# EAGLE library part TPS56528 (library PowerMgmt_TI)
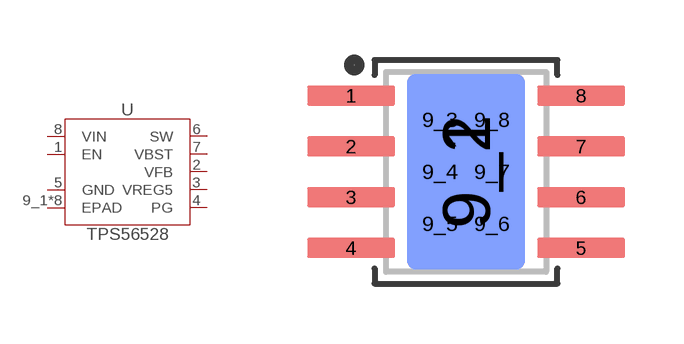
[diagram p0: symbol with the pads of SOIC-08_EPAD; footprint SOIC-08_EPAD]

Designator prefix U

## TPS56528  [SOIC-08_EPAD]
1  EN  in
2  VFB  in
3  VREG5  out
4  PG  out
5  GND  pwr
6  SW  pas
7  VBST  out
8  VIN  pwr
9_1  EPAD  pwr
9_2  EPAD  pwr
9_3  EPAD  pwr
9_4  EPAD  pwr
9_5  EPAD  pwr
9_6  EPAD  pwr
9_7  EPAD  pwr
9_8  EPAD  pwr

## Footprint SOIC-08_EPAD (pad centres in mm)
smd 2.2 x 0.5: 1 -2.875,1.905; 2 -2.875,0.635; 3 -2.875,-0.635; 4 -2.875,-1.905; 5 2.875,-1.905; 6 2.875,-0.635; 7 2.875,0.635; 8 2.875,1.905
smd 2.95 x 4.9: 9_1 0,0
smd 2.95 x 4.9 bottom: 9_2 0,0
drill 0.35 pad 0.4: 9_3 -0.65,1.3; 9_4 -0.65,0; 9_5 -0.65,-1.3; 9_6 0.65,-1.3; 9_7 0.65,0; 9_8 0.65,1.3